# EAGLE library part IMU (library IMU)
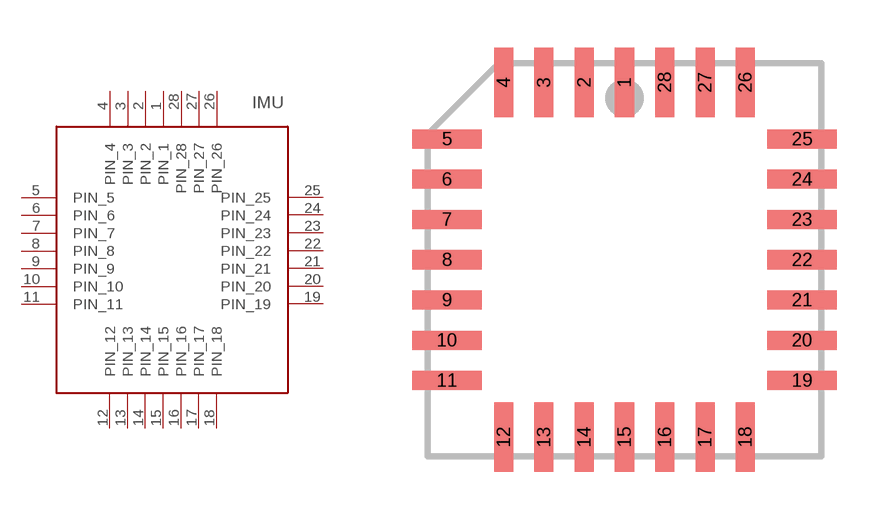
[diagram p0: symbol with the pads of PLCC28S; footprint PLCC28S]

Designator prefix -

## IMU  [PLCC28S]
1  PIN_1
2  PIN_2
3  PIN_3
4  PIN_4
5  PIN_5
6  PIN_6
7  PIN_7
8  PIN_8
9  PIN_9
10  PIN_10
11  PIN_11
12  PIN_12
13  PIN_13
14  PIN_14
15  PIN_15
16  PIN_16
17  PIN_17
18  PIN_18
19  PIN_19
20  PIN_20
21  PIN_21
22  PIN_22
23  PIN_23
24  PIN_24
25  PIN_25
26  PIN_26
27  PIN_27
28  PIN_28

## Footprint PLCC28S (pad centres in mm)
PLASTIC LEADED CHIP CARRIER square
smd 0.6 x 2.2: 1 0,5.6; 2 -1.27,5.6; 3 -2.54,5.6; 4 -3.81,5.6; 12 -3.81,-5.6; 13 -2.54,-5.6; 14 -1.27,-5.6; 15 0,-5.6; 16 1.27,-5.6; 17 2.54,-5.6; 18 3.81,-5.6; 26 3.81,5.6; 27 2.54,5.6; 28 1.27,5.6
smd 2.2 x 0.6: 5 -5.6,3.81; 6 -5.6,2.54; 7 -5.6,1.27; 8 -5.6,0; 9 -5.6,-1.27; 10 -5.6,-2.54; 11 -5.6,-3.81; 19 5.6,-3.81; 20 5.6,-2.54; 21 5.6,-1.27; 22 5.6,0; 23 5.6,1.27; 24 5.6,2.54; 25 5.6,3.81